# EAGLE library part DSPIC33FJ128MC804-I/PT (library Microchip_By_element14_Batch_1)
Digital Signal Controllers
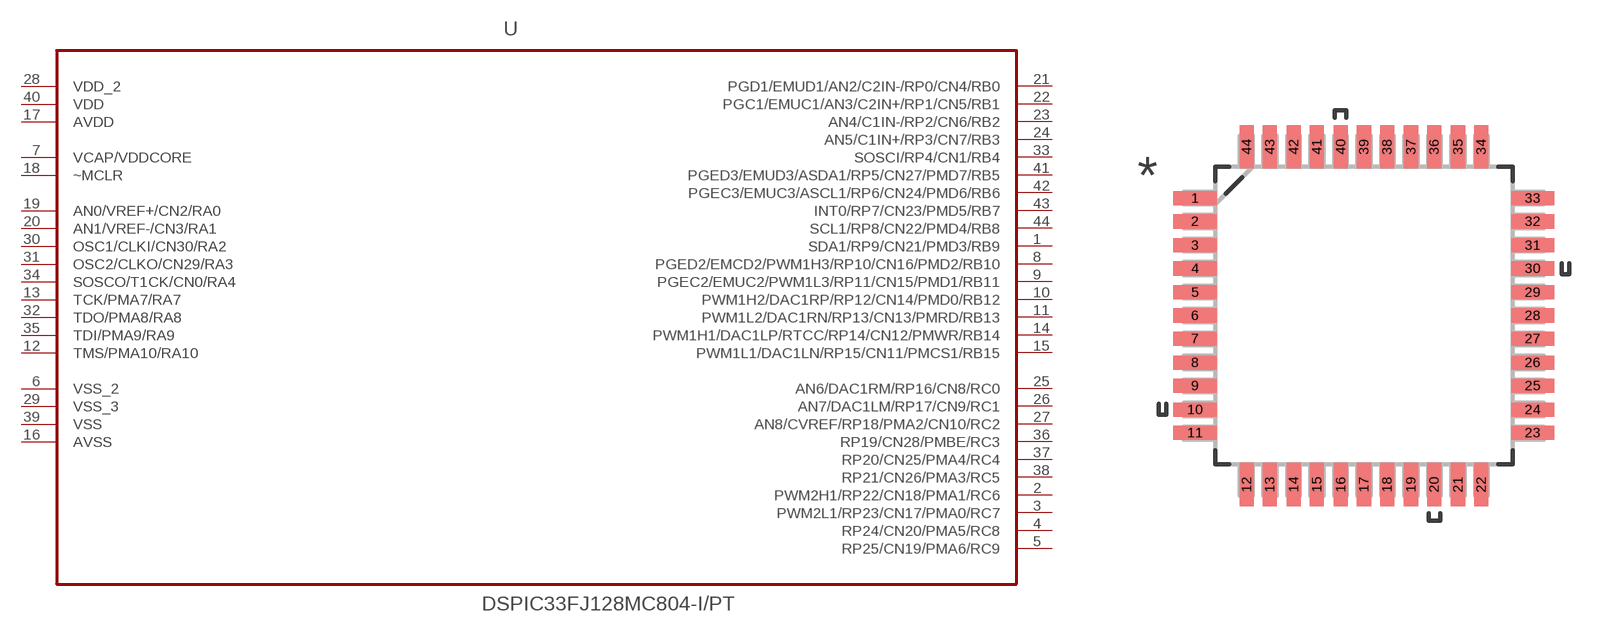
[diagram p367: symbol with the pads of QFP80P1200X1200X120-44N; footprint QFP80P1200X1200X120-44N]

Designator prefix -

## DSPIC33FJ128MC804-I/PT (DESCRIPTION: Digital Signal Controllers; MPN: DSPIC33FJ128MC804-I/PT; OC_FARNELL: 1576810; OC_NEWARK: 39M8146; PACKAGE: TQFP-44; SUPPLIER: Microchip)  [QFP80P1200X1200X120-44N]
1  SDA1/RP9/CN21/PMD3/RB9
2  PWM2H1/RP22/CN18/PMA1/RC6
3  PWM2L1/RP23/CN17/PMA0/RC7
4  RP24/CN20/PMA5/RC8
5  RP25/CN19/PMA6/RC9
6  VSS_2  pas
7  VCAP/VDDCORE  pwr
8  PGED2/EMCD2/PWM1H3/RP10/CN16/PMD2/RB10
9  PGEC2/EMUC2/PWM1L3/RP11/CN15/PMD1/RB11
10  PWM1H2/DAC1RP/RP12/CN14/PMD0/RB12
11  PWM1L2/DAC1RN/RP13/CN13/PMRD/RB13
12  TMS/PMA10/RA10
13  TCK/PMA7/RA7
14  PWM1H1/DAC1LP/RTCC/RP14/CN12/PMWR/RB14
15  PWM1L1/DAC1LN/RP15/CN11/PMCS1/RB15
16  AVSS  pas
17  AVDD  pwr
18  ~MCLR  in
19  AN0/VREF+/CN2/RA0
20  AN1/VREF-/CN3/RA1
21  PGD1/EMUD1/AN2/C2IN-/RP0/CN4/RB0
22  PGC1/EMUC1/AN3/C2IN+/RP1/CN5/RB1
23  AN4/C1IN-/RP2/CN6/RB2
24  AN5/C1IN+/RP3/CN7/RB3
25  AN6/DAC1RM/RP16/CN8/RC0
26  AN7/DAC1LM/RP17/CN9/RC1
27  AN8/CVREF/RP18/PMA2/CN10/RC2
28  VDD_2  pwr
29  VSS_3  pas
30  OSC1/CLKI/CN30/RA2
31  OSC2/CLKO/CN29/RA3
32  TDO/PMA8/RA8
33  SOSCI/RP4/CN1/RB4
34  SOSCO/T1CK/CN0/RA4
35  TDI/PMA9/RA9
36  RP19/CN28/PMBE/RC3
37  RP20/CN25/PMA4/RC4
38  RP21/CN26/PMA3/RC5
39  VSS  pas
40  VDD  pwr
41  PGED3/EMUD3/ASDA1/RP5/CN27/PMD7/RB5
42  PGEC3/EMUC3/ASCL1/RP6/CN24/PMD6/RB6
43  INT0/RP7/CN23/PMD5/RB7
44  SCL1/RP8/CN22/PMD4/RB8

## Footprint QFP80P1200X1200X120-44N (pad centres in mm)
smd 1.473 x 0.483: 1 -5.74,3.988; 2 -5.74,3.2; 3 -5.74,2.388; 4 -5.74,1.6; 5 -5.74,0.787; 6 -5.74,0; 7 -5.74,-0.787; 8 -5.74,-1.6; 9 -5.74,-2.388; 10 -5.74,-3.2; 11 -5.74,-3.988; 23 5.74,-3.988; 24 5.74,-3.2; 25 5.74,-2.388; 26 5.74,-1.6; 27 5.74,-0.787; 28 5.74,0; 29 5.74,0.787; 30 5.74,1.6; 31 5.74,2.388; 32 5.74,3.2; 33 5.74,3.988
smd 0.483 x 1.473: 12 -3.988,-5.74; 13 -3.2,-5.74; 14 -2.388,-5.74; 15 -1.6,-5.74; 16 -0.787,-5.74; 17 0,-5.74; 18 0.787,-5.74; 19 1.6,-5.74; 20 2.388,-5.74; 21 3.2,-5.74; 22 3.988,-5.74; 34 3.988,5.74; 35 3.2,5.74; 36 2.388,5.74; 37 1.6,5.74; 38 0.787,5.74; 39 0,5.74; 40 -0.787,5.74; 41 -1.6,5.74; 42 -2.388,5.74; 43 -3.2,5.74; 44 -3.988,5.74